# Altium integrated library Linear Technology Power Management System Supervisor, Monitor and Control.IntLib: 1611 symbols (part 30 of 100)
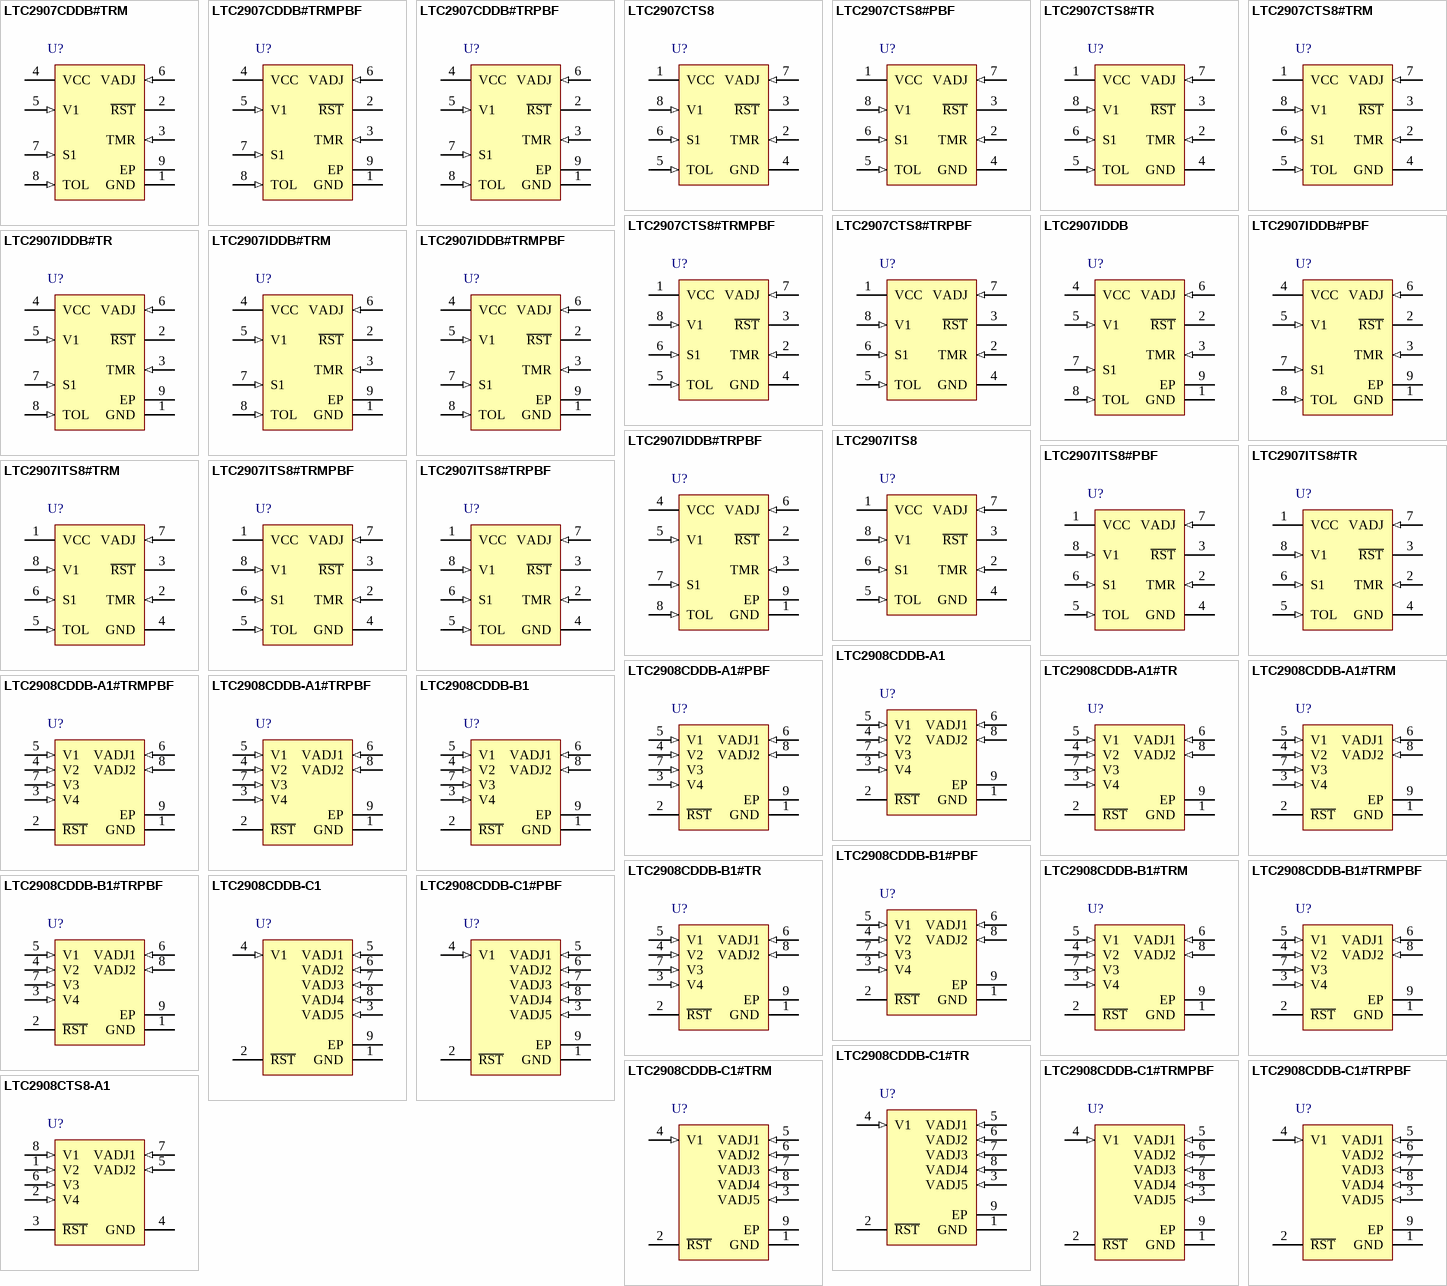
[diagram p74: symbols LTC2907CDDB#TRM to LTC2908CTS8-A1]

## LTC2908CDDB-C1#TRPBF
designator U?
Precision Six Supply Monitor, 8-pin SON (DDB-8), 0 to 70 degC, Pb-Free, Tape and Reel; Manufacturer: Linear Technology; PartNumber: LTC2908CDDB-C1#TRPBF; Number of Supplies(#): 6; DatasheetVersion: Rev. D; PackageVersion: Rev. B, 06/2010; PackageReference: DDB-8; PackageDescription: 8-Pin Plastic DFN, Body 3 x 2 mm, Pitch 0.5 mm; Supplier 1: Digi-Key; Supplier Part Number 1: LTC2908CDDB-C1#TRPBF-ND; Packing: Tape and Reel; RoHS: TRUE; Mounting Technology: Surface Mount; Code_JEDEC: MO-229; ComponentLink1Description: Manufacturer URL; ComponentLink1URL: http://www.linear.com/; ComponentLink2Description: Datasheet; ComponentLink2URL: http://cds.linear.com/docs/en/datasheet/2908fd.pdf; ComponentLink3Description: Package Specification; ComponentLink3URL: http://cds.linear.com/docs/en/packaging/DFN_8_05-08-1702.pdf
footprint LT-DDB-8_V (SON, 8-Leads, Body 3x2mm, Pitch 0.5mm, Thermal Pad 2.2x0.61mm)
pins: 1 GND (power) "Device Ground.", 2 ~{RST} (oc) "Reset Logic Output. Pulls low when any voltage input is below the reset threshold and is held low for 200ms after all voltage inputs are above threshold. This pin has a weak pull-up to VCC and may be pulled above VCC using (See Datasheet)", 3 VADJ5 (in) "Adjustable Voltage Input 5. See Table 1 for recommended ADJ resistors values.", 4 V1 (in) "Voltage Input 1. V1 is the internal VCC. The operating voltage on this pin shall not exceed 6V. When in normal operation, this pin draws approximately 22uA. Bypass this pin to ground with a 0.1uF (or greater) capacitor.", 5 VADJ1 (in) "Adjustable Voltage Input 1. See Table 1 for recommended ADJ resistors values.", 6 VADJ2 (in) "Adjustable Voltage Input 2. See Table 1 for recommended ADJ resistors values.", 7 VADJ3 (in) "Adjustable Voltage Input 3. See Table 1 for recommended ADJ resistors values.", 8 VADJ4 (in) "Adjustable Voltage Input 4. See Table 1 for recommended ADJ resistors values.", 9 EP (power) "Exposed pad may be left open or connected to device ground."

## LTC2908CTS8-A1
designator U?
Precision Six Supply Monitor, 8-pin SOT23 (TS8-8), 0 to 70 degC; Manufacturer: Linear Technology; PartNumber: LTC2908CTS8-A1; Number of Supplies(#): 6; DatasheetVersion: Rev. D; PackageVersion: Rev. A, 08/2010; PackageReference: TS8-8; PackageDescription: 8-Pin Plastic TSOT-23, Body 2.9 x 1.63 mm, Pitch 0.65 mm; RoHS: FALSE; Mounting Technology: Surface Mount; Code_JEDEC: MO-193; ComponentLink1Description: Manufacturer URL; ComponentLink1URL: http://www.linear.com/; ComponentLink2Description: Datasheet; ComponentLink2URL: http://cds.linear.com/docs/en/datasheet/2908fd.pdf; ComponentLink3Description: Package Specification; ComponentLink3URL: http://cds.linear.com/docs/en/packaging/SOT_8_05-08-1637.pdf
footprint LT-TS8-8-TSOT-23_V (SOT23, 8-Leads, Body 2.9x1.75mm, Pitch 0.65mm)
pins: 1 V2 (in) "Voltage Input 2. The greater of V1, V2 is also the internal VCC. The operating voltage on this pin shall not exceed 6V. When in normal operation (V1 > V2), this pin draws approximately 8uA. When this pin is acting as the VCC (See Datasheet)", 2 V4 (in) "Voltage Input 4.", 3 ~{RST} (oc) "Reset Logic Output. Pulls low when any voltage input is below the reset threshold and is held low for 200ms after all voltage inputs are above threshold. This pin has a weak pull-up to VCC and may be pulled above VCC using (See Datasheet)", 4 GND (power) "Device Ground.", 5 VADJ2 (in) "Adjustable Voltage Input 2. See Table 1 for recommended ADJ resistors values.", 6 V3 (in) "Voltage Input 3.", 7 VADJ1 (in) "Adjustable Voltage Input 1. See Table 1 for recommended ADJ resistors values.", 8 V1 (in) "Voltage Input 1. The greater of V1, V2 is also the internal VCC. The operating voltage on this pin shall not exceed 6V. When in normal operation (V1 > V2), this pin draws approximately 26 uA. When this pin is not acting as (See Datasheet)"

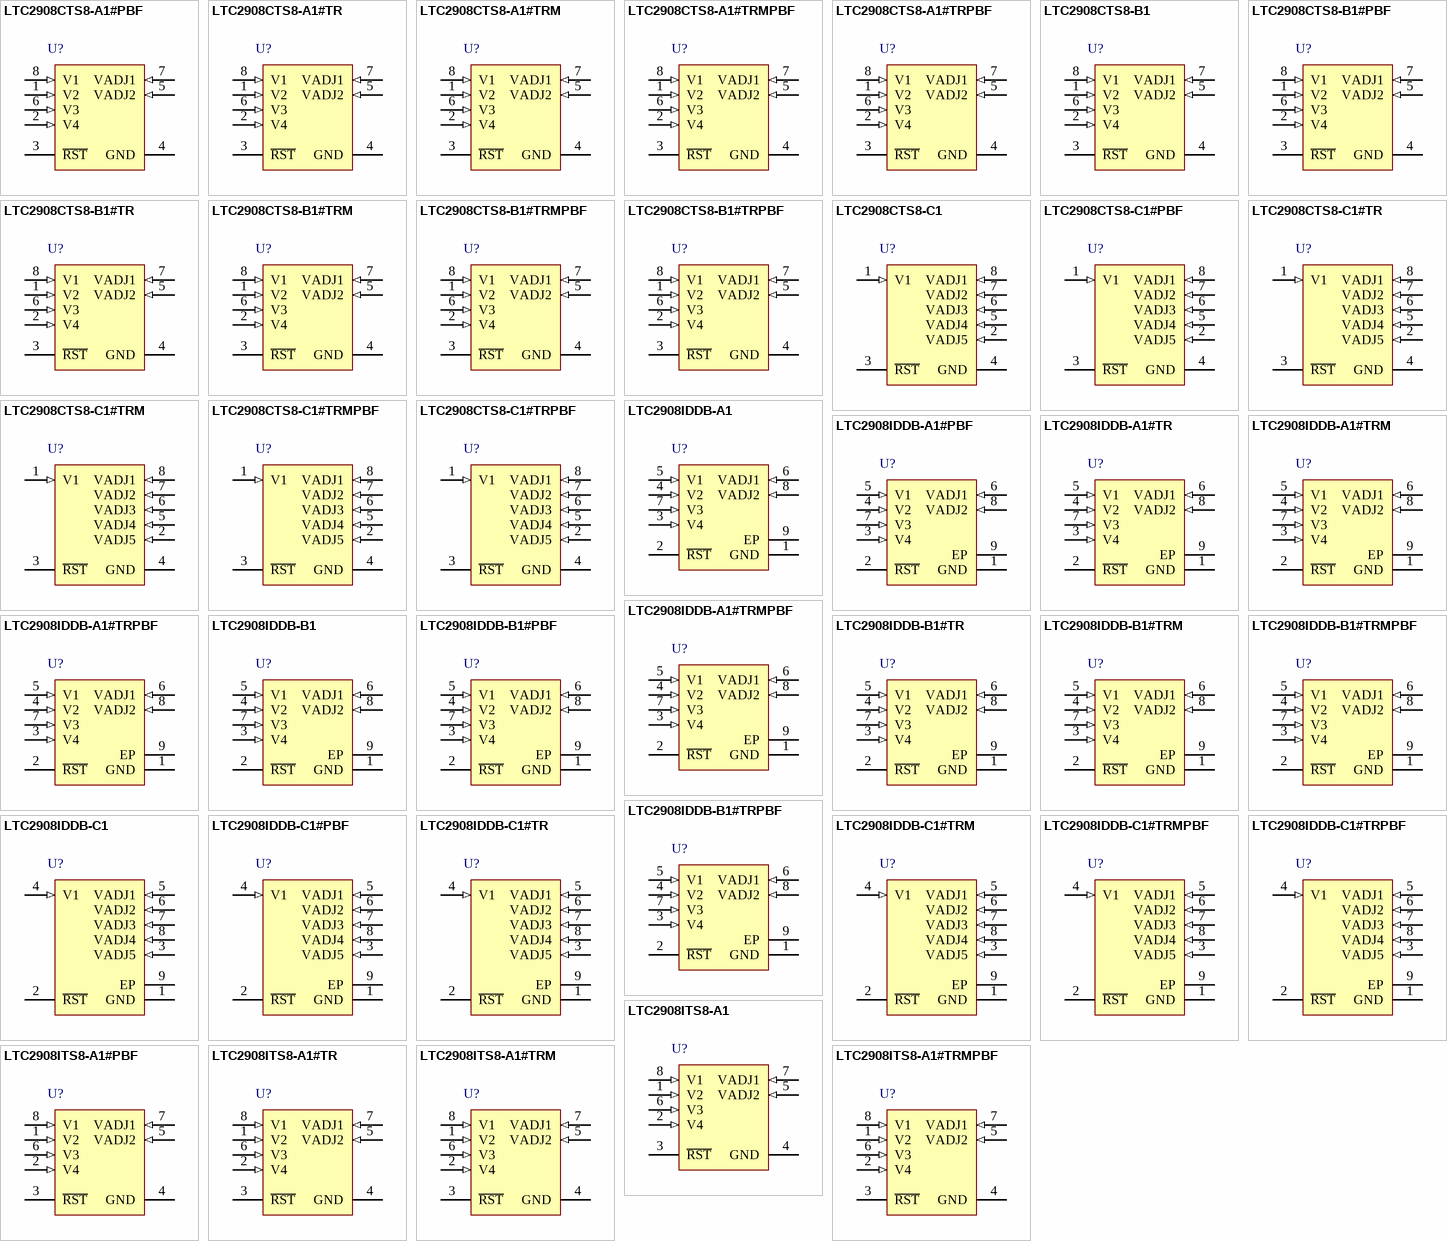
[diagram p15: symbols LTC2908CTS8-A1#PBF to LTC2908ITS8-A1#TRMPBF]

## LTC2908CTS8-A1#PBF
designator U?
Precision Six Supply Monitor, 8-pin SOT23 (TS8-8), 0 to 70 degC, Pb-Free; Manufacturer: Linear Technology; PartNumber: LTC2908CTS8-A1#PBF; Number of Supplies(#): 6; DatasheetVersion: Rev. D; PackageVersion: Rev. A, 08/2010; PackageReference: TS8-8; PackageDescription: 8-Pin Plastic TSOT-23, Body 2.9 x 1.63 mm, Pitch 0.65 mm; RoHS: TRUE; Mounting Technology: Surface Mount; Code_JEDEC: MO-193; ComponentLink1Description: Manufacturer URL; ComponentLink1URL: http://www.linear.com/; ComponentLink2Description: Datasheet; ComponentLink2URL: http://cds.linear.com/docs/en/datasheet/2908fd.pdf; ComponentLink3Description: Package Specification; ComponentLink3URL: http://cds.linear.com/docs/en/packaging/SOT_8_05-08-1637.pdf
footprint LT-TS8-8-TSOT-23_V (SOT23, 8-Leads, Body 2.9x1.75mm, Pitch 0.65mm)
pins: 1 V2 (in) "Voltage Input 2. The greater of V1, V2 is also the internal VCC. The operating voltage on this pin shall not exceed 6V. When in normal operation (V1 > V2), this pin draws approximately 8uA. When this pin is acting as the VCC (See Datasheet)", 2 V4 (in) "Voltage Input 4.", 3 ~{RST} (oc) "Reset Logic Output. Pulls low when any voltage input is below the reset threshold and is held low for 200ms after all voltage inputs are above threshold. This pin has a weak pull-up to VCC and may be pulled above VCC using (See Datasheet)", 4 GND (power) "Device Ground.", 5 VADJ2 (in) "Adjustable Voltage Input 2. See Table 1 for recommended ADJ resistors values.", 6 V3 (in) "Voltage Input 3.", 7 VADJ1 (in) "Adjustable Voltage Input 1. See Table 1 for recommended ADJ resistors values.", 8 V1 (in) "Voltage Input 1. The greater of V1, V2 is also the internal VCC. The operating voltage on this pin shall not exceed 6V. When in normal operation (V1 > V2), this pin draws approximately 26 uA. When this pin is not acting as (See Datasheet)"

## LTC2908CTS8-A1#TR
designator U?
Precision Six Supply Monitor, 8-pin SOT23 (TS8-8), 0 to 70 degC, Tape and Reel; Manufacturer: Linear Technology; PartNumber: LTC2908CTS8-A1#TR; Number of Supplies(#): 6; DatasheetVersion: Rev. D; PackageVersion: Rev. A, 08/2010; PackageReference: TS8-8; PackageDescription: 8-Pin Plastic TSOT-23, Body 2.9 x 1.63 mm, Pitch 0.65 mm; Supplier 1: Digi-Key; Supplier Part Number 1: LTC2908CTS8-A1#TR-ND; Packing: Tape and Reel; RoHS: FALSE; Mounting Technology: Surface Mount; Code_JEDEC: MO-193; ComponentLink1Description: Manufacturer URL; ComponentLink1URL: http://www.linear.com/; ComponentLink2Description: Datasheet; ComponentLink2URL: http://cds.linear.com/docs/en/datasheet/2908fd.pdf; ComponentLink3Description: Package Specification; ComponentLink3URL: http://cds.linear.com/docs/en/packaging/SOT_8_05-08-1637.pdf
footprint LT-TS8-8-TSOT-23_V (SOT23, 8-Leads, Body 2.9x1.75mm, Pitch 0.65mm)
pins: 1 V2 (in) "Voltage Input 2. The greater of V1, V2 is also the internal VCC. The operating voltage on this pin shall not exceed 6V. When in normal operation (V1 > V2), this pin draws approximately 8uA. When this pin is acting as the VCC (See Datasheet)", 2 V4 (in) "Voltage Input 4.", 3 ~{RST} (oc) "Reset Logic Output. Pulls low when any voltage input is below the reset threshold and is held low for 200ms after all voltage inputs are above threshold. This pin has a weak pull-up to VCC and may be pulled above VCC using (See Datasheet)", 4 GND (power) "Device Ground.", 5 VADJ2 (in) "Adjustable Voltage Input 2. See Table 1 for recommended ADJ resistors values.", 6 V3 (in) "Voltage Input 3.", 7 VADJ1 (in) "Adjustable Voltage Input 1. See Table 1 for recommended ADJ resistors values.", 8 V1 (in) "Voltage Input 1. The greater of V1, V2 is also the internal VCC. The operating voltage on this pin shall not exceed 6V. When in normal operation (V1 > V2), this pin draws approximately 26 uA. When this pin is not acting as (See Datasheet)"

## LTC2908CTS8-A1#TRM
designator U?
Precision Six Supply Monitor, 8-pin SOT23 (TS8-8), 0 to 70 degC, Mini Tape and Reel; Manufacturer: Linear Technology; PartNumber: LTC2908CTS8-A1#TRM; Number of Supplies(#): 6; DatasheetVersion: Rev. D; PackageVersion: Rev. A, 08/2010; PackageReference: TS8-8; PackageDescription: 8-Pin Plastic TSOT-23, Body 2.9 x 1.63 mm, Pitch 0.65 mm; Supplier 1: Digi-Key; Supplier Part Number 1: LTC2908CTS8-A1#TRM-ND; Packing: Mini Tape and Reel; RoHS: FALSE; Mounting Technology: Surface Mount; Code_JEDEC: MO-193; ComponentLink1Description: Manufacturer URL; ComponentLink1URL: http://www.linear.com/; ComponentLink2Description: Datasheet; ComponentLink2URL: http://cds.linear.com/docs/en/datasheet/2908fd.pdf; ComponentLink3Description: Package Specification; ComponentLink3URL: http://cds.linear.com/docs/en/packaging/SOT_8_05-08-1637.pdf
footprint LT-TS8-8-TSOT-23_V (SOT23, 8-Leads, Body 2.9x1.75mm, Pitch 0.65mm)
pins: 1 V2 (in) "Voltage Input 2. The greater of V1, V2 is also the internal VCC. The operating voltage on this pin shall not exceed 6V. When in normal operation (V1 > V2), this pin draws approximately 8uA. When this pin is acting as the VCC (See Datasheet)", 2 V4 (in) "Voltage Input 4.", 3 ~{RST} (oc) "Reset Logic Output. Pulls low when any voltage input is below the reset threshold and is held low for 200ms after all voltage inputs are above threshold. This pin has a weak pull-up to VCC and may be pulled above VCC using (See Datasheet)", 4 GND (power) "Device Ground.", 5 VADJ2 (in) "Adjustable Voltage Input 2. See Table 1 for recommended ADJ resistors values.", 6 V3 (in) "Voltage Input 3.", 7 VADJ1 (in) "Adjustable Voltage Input 1. See Table 1 for recommended ADJ resistors values.", 8 V1 (in) "Voltage Input 1. The greater of V1, V2 is also the internal VCC. The operating voltage on this pin shall not exceed 6V. When in normal operation (V1 > V2), this pin draws approximately 26 uA. When this pin is not acting as (See Datasheet)"

## LTC2908CTS8-A1#TRMPBF
designator U?
Precision Six Supply Monitor, 8-pin SOT23 (TS8-8), 0 to 70 degC, Pb-Free, Mini Tape and Reel; Manufacturer: Linear Technology; PartNumber: LTC2908CTS8-A1#TRMPBF; Number of Supplies(#): 6; DatasheetVersion: Rev. D; PackageVersion: Rev. A, 08/2010; PackageReference: TS8-8; PackageDescription: 8-Pin Plastic TSOT-23, Body 2.9 x 1.63 mm, Pitch 0.65 mm; Supplier 1: Digi-Key; Supplier Part Number 1: LTC2908CTS8-A1#TRMPBF-ND; Packing: Mini Tape and Reel; RoHS: TRUE; Mounting Technology: Surface Mount; Code_JEDEC: MO-193; ComponentLink1Description: Manufacturer URL; ComponentLink1URL: http://www.linear.com/; ComponentLink2Description: Datasheet; ComponentLink2URL: http://cds.linear.com/docs/en/datasheet/2908fd.pdf; ComponentLink3Description: Package Specification; ComponentLink3URL: http://cds.linear.com/docs/en/packaging/SOT_8_05-08-1637.pdf
footprint LT-TS8-8-TSOT-23_V (SOT23, 8-Leads, Body 2.9x1.75mm, Pitch 0.65mm)
pins: 1 V2 (in) "Voltage Input 2. The greater of V1, V2 is also the internal VCC. The operating voltage on this pin shall not exceed 6V. When in normal operation (V1 > V2), this pin draws approximately 8uA. When this pin is acting as the VCC (See Datasheet)", 2 V4 (in) "Voltage Input 4.", 3 ~{RST} (oc) "Reset Logic Output. Pulls low when any voltage input is below the reset threshold and is held low for 200ms after all voltage inputs are above threshold. This pin has a weak pull-up to VCC and may be pulled above VCC using (See Datasheet)", 4 GND (power) "Device Ground.", 5 VADJ2 (in) "Adjustable Voltage Input 2. See Table 1 for recommended ADJ resistors values.", 6 V3 (in) "Voltage Input 3.", 7 VADJ1 (in) "Adjustable Voltage Input 1. See Table 1 for recommended ADJ resistors values.", 8 V1 (in) "Voltage Input 1. The greater of V1, V2 is also the internal VCC. The operating voltage on this pin shall not exceed 6V. When in normal operation (V1 > V2), this pin draws approximately 26 uA. When this pin is not acting as (See Datasheet)"

## LTC2908CTS8-A1#TRPBF
designator U?
Precision Six Supply Monitor, 8-pin SOT23 (TS8-8), 0 to 70 degC, Pb-Free, Tape and Reel; Manufacturer: Linear Technology; PartNumber: LTC2908CTS8-A1#TRPBF; Number of Supplies(#): 6; DatasheetVersion: Rev. D; PackageVersion: Rev. A, 08/2010; PackageReference: TS8-8; PackageDescription: 8-Pin Plastic TSOT-23, Body 2.9 x 1.63 mm, Pitch 0.65 mm; Supplier 1: Digi-Key; Supplier Part Number 1: LTC2908CTS8-A1#TRPBF-ND; Packing: Tape and Reel; RoHS: TRUE; Mounting Technology: Surface Mount; Code_JEDEC: MO-193; ComponentLink1Description: Manufacturer URL; ComponentLink1URL: http://www.linear.com/; ComponentLink2Description: Datasheet; ComponentLink2URL: http://cds.linear.com/docs/en/datasheet/2908fd.pdf; ComponentLink3Description: Package Specification; ComponentLink3URL: http://cds.linear.com/docs/en/packaging/SOT_8_05-08-1637.pdf
footprint LT-TS8-8-TSOT-23_V (SOT23, 8-Leads, Body 2.9x1.75mm, Pitch 0.65mm)
pins: 1 V2 (in) "Voltage Input 2. The greater of V1, V2 is also the internal VCC. The operating voltage on this pin shall not exceed 6V. When in normal operation (V1 > V2), this pin draws approximately 8uA. When this pin is acting as the VCC (See Datasheet)", 2 V4 (in) "Voltage Input 4.", 3 ~{RST} (oc) "Reset Logic Output. Pulls low when any voltage input is below the reset threshold and is held low for 200ms after all voltage inputs are above threshold. This pin has a weak pull-up to VCC and may be pulled above VCC using (See Datasheet)", 4 GND (power) "Device Ground.", 5 VADJ2 (in) "Adjustable Voltage Input 2. See Table 1 for recommended ADJ resistors values.", 6 V3 (in) "Voltage Input 3.", 7 VADJ1 (in) "Adjustable Voltage Input 1. See Table 1 for recommended ADJ resistors values.", 8 V1 (in) "Voltage Input 1. The greater of V1, V2 is also the internal VCC. The operating voltage on this pin shall not exceed 6V. When in normal operation (V1 > V2), this pin draws approximately 26 uA. When this pin is not acting as (See Datasheet)"

## LTC2908CTS8-B1
designator U?
Precision Six Supply Monitor, 8-pin SOT23 (TS8-8), 0 to 70 degC; Manufacturer: Linear Technology; PartNumber: LTC2908CTS8-B1; Number of Supplies(#): 6; DatasheetVersion: Rev. D; PackageVersion: Rev. A, 08/2010; PackageReference: TS8-8; PackageDescription: 8-Pin Plastic TSOT-23, Body 2.9 x 1.63 mm, Pitch 0.65 mm; RoHS: FALSE; Mounting Technology: Surface Mount; Code_JEDEC: MO-193; ComponentLink1Description: Manufacturer URL; ComponentLink1URL: http://www.linear.com/; ComponentLink2Description: Datasheet; ComponentLink2URL: http://cds.linear.com/docs/en/datasheet/2908fd.pdf; ComponentLink3Description: Package Specification; ComponentLink3URL: http://cds.linear.com/docs/en/packaging/SOT_8_05-08-1637.pdf
footprint LT-TS8-8-TSOT-23_V (SOT23, 8-Leads, Body 2.9x1.75mm, Pitch 0.65mm)
pins: 1 V2 (in) "Voltage Input 2. The greater of V1, V2 is also the internal VCC. The operating voltage on this pin shall not exceed 6V. When in normal operation (V1 > V2), this pin draws approximately 8uA. When this pin is acting as the VCC (See Datasheet)", 2 V4 (in) "Voltage Input 4.", 3 ~{RST} (oc) "Reset Logic Output. Pulls low when any voltage input is below the reset threshold and is held low for 200ms after all voltage inputs are above threshold. This pin has a weak pull-up to VCC and may be pulled above VCC using (See Datasheet)", 4 GND (power) "Device Ground.", 5 VADJ2 (in) "Adjustable Voltage Input 2. See Table 1 for recommended ADJ resistors values.", 6 V3 (in) "Voltage Input 3.", 7 VADJ1 (in) "Adjustable Voltage Input 1. See Table 1 for recommended ADJ resistors values.", 8 V1 (in) "Voltage Input 1. The greater of V1, V2 is also the internal VCC. The operating voltage on this pin shall not exceed 6V. When in normal operation (V1 > V2), this pin draws approximately 26 uA. When this pin is not acting as (See Datasheet)"

## LTC2908CTS8-B1#PBF
designator U?
Precision Six Supply Monitor, 8-pin SOT23 (TS8-8), 0 to 70 degC, Pb-Free; Manufacturer: Linear Technology; PartNumber: LTC2908CTS8-B1#PBF; Number of Supplies(#): 6; DatasheetVersion: Rev. D; PackageVersion: Rev. A, 08/2010; PackageReference: TS8-8; PackageDescription: 8-Pin Plastic TSOT-23, Body 2.9 x 1.63 mm, Pitch 0.65 mm; Supplier 1: Farnell; Supplier Part Number 1: 2115938; Supplier 2: Farnell; Supplier Part Number 2: 1531692; Supplier 3: Newark; Supplier Part Number 3: 66M7838; RoHS: TRUE; Mounting Technology: Surface Mount; Code_JEDEC: MO-193; ComponentLink1Description: Manufacturer URL; ComponentLink1URL: http://www.linear.com/; ComponentLink2Description: Datasheet; ComponentLink2URL: http://cds.linear.com/docs/en/datasheet/2908fd.pdf; ComponentLink3Description: Package Specification; ComponentLink3URL: http://cds.linear.com/docs/en/packaging/SOT_8_05-08-1637.pdf
footprint LT-TS8-8-TSOT-23_V (SOT23, 8-Leads, Body 2.9x1.75mm, Pitch 0.65mm)
pins: 1 V2 (in) "Voltage Input 2. The greater of V1, V2 is also the internal VCC. The operating voltage on this pin shall not exceed 6V. When in normal operation (V1 > V2), this pin draws approximately 8uA. When this pin is acting as the VCC (See Datasheet)", 2 V4 (in) "Voltage Input 4.", 3 ~{RST} (oc) "Reset Logic Output. Pulls low when any voltage input is below the reset threshold and is held low for 200ms after all voltage inputs are above threshold. This pin has a weak pull-up to VCC and may be pulled above VCC using (See Datasheet)", 4 GND (power) "Device Ground.", 5 VADJ2 (in) "Adjustable Voltage Input 2. See Table 1 for recommended ADJ resistors values.", 6 V3 (in) "Voltage Input 3.", 7 VADJ1 (in) "Adjustable Voltage Input 1. See Table 1 for recommended ADJ resistors values.", 8 V1 (in) "Voltage Input 1. The greater of V1, V2 is also the internal VCC. The operating voltage on this pin shall not exceed 6V. When in normal operation (V1 > V2), this pin draws approximately 26 uA. When this pin is not acting as (See Datasheet)"

## LTC2908CTS8-B1#TR
designator U?
Precision Six Supply Monitor, 8-pin SOT23 (TS8-8), 0 to 70 degC, Tape and Reel; Manufacturer: Linear Technology; PartNumber: LTC2908CTS8-B1#TR; Number of Supplies(#): 6; DatasheetVersion: Rev. D; PackageVersion: Rev. A, 08/2010; PackageReference: TS8-8; PackageDescription: 8-Pin Plastic TSOT-23, Body 2.9 x 1.63 mm, Pitch 0.65 mm; Supplier 1: Digi-Key; Supplier Part Number 1: LTC2908CTS8-B1#TR-ND; Packing: Tape and Reel; RoHS: FALSE; Mounting Technology: Surface Mount; Code_JEDEC: MO-193; ComponentLink1Description: Manufacturer URL; ComponentLink1URL: http://www.linear.com/; ComponentLink2Description: Datasheet; ComponentLink2URL: http://cds.linear.com/docs/en/datasheet/2908fd.pdf; ComponentLink3Description: Package Specification; ComponentLink3URL: http://cds.linear.com/docs/en/packaging/SOT_8_05-08-1637.pdf
footprint LT-TS8-8-TSOT-23_V (SOT23, 8-Leads, Body 2.9x1.75mm, Pitch 0.65mm)
pins: 1 V2 (in) "Voltage Input 2. The greater of V1, V2 is also the internal VCC. The operating voltage on this pin shall not exceed 6V. When in normal operation (V1 > V2), this pin draws approximately 8uA. When this pin is acting as the VCC (See Datasheet)", 2 V4 (in) "Voltage Input 4.", 3 ~{RST} (oc) "Reset Logic Output. Pulls low when any voltage input is below the reset threshold and is held low for 200ms after all voltage inputs are above threshold. This pin has a weak pull-up to VCC and may be pulled above VCC using (See Datasheet)", 4 GND (power) "Device Ground.", 5 VADJ2 (in) "Adjustable Voltage Input 2. See Table 1 for recommended ADJ resistors values.", 6 V3 (in) "Voltage Input 3.", 7 VADJ1 (in) "Adjustable Voltage Input 1. See Table 1 for recommended ADJ resistors values.", 8 V1 (in) "Voltage Input 1. The greater of V1, V2 is also the internal VCC. The operating voltage on this pin shall not exceed 6V. When in normal operation (V1 > V2), this pin draws approximately 26 uA. When this pin is not acting as (See Datasheet)"

## LTC2908CTS8-B1#TRM
designator U?
Precision Six Supply Monitor, 8-pin SOT23 (TS8-8), 0 to 70 degC, Mini Tape and Reel; Manufacturer: Linear Technology; PartNumber: LTC2908CTS8-B1#TRM; Number of Supplies(#): 6; DatasheetVersion: Rev. D; PackageVersion: Rev. A, 08/2010; PackageReference: TS8-8; PackageDescription: 8-Pin Plastic TSOT-23, Body 2.9 x 1.63 mm, Pitch 0.65 mm; Supplier 1: Digi-Key; Supplier Part Number 1: LTC2908CTS8-B1#TRM-ND; Packing: Mini Tape and Reel; RoHS: FALSE; Mounting Technology: Surface Mount; Code_JEDEC: MO-193; ComponentLink1Description: Manufacturer URL; ComponentLink1URL: http://www.linear.com/; ComponentLink2Description: Datasheet; ComponentLink2URL: http://cds.linear.com/docs/en/datasheet/2908fd.pdf; ComponentLink3Description: Package Specification; ComponentLink3URL: http://cds.linear.com/docs/en/packaging/SOT_8_05-08-1637.pdf
footprint LT-TS8-8-TSOT-23_V (SOT23, 8-Leads, Body 2.9x1.75mm, Pitch 0.65mm)
pins: 1 V2 (in) "Voltage Input 2. The greater of V1, V2 is also the internal VCC. The operating voltage on this pin shall not exceed 6V. When in normal operation (V1 > V2), this pin draws approximately 8uA. When this pin is acting as the VCC (See Datasheet)", 2 V4 (in) "Voltage Input 4.", 3 ~{RST} (oc) "Reset Logic Output. Pulls low when any voltage input is below the reset threshold and is held low for 200ms after all voltage inputs are above threshold. This pin has a weak pull-up to VCC and may be pulled above VCC using (See Datasheet)", 4 GND (power) "Device Ground.", 5 VADJ2 (in) "Adjustable Voltage Input 2. See Table 1 for recommended ADJ resistors values.", 6 V3 (in) "Voltage Input 3.", 7 VADJ1 (in) "Adjustable Voltage Input 1. See Table 1 for recommended ADJ resistors values.", 8 V1 (in) "Voltage Input 1. The greater of V1, V2 is also the internal VCC. The operating voltage on this pin shall not exceed 6V. When in normal operation (V1 > V2), this pin draws approximately 26 uA. When this pin is not acting as (See Datasheet)"

## LTC2908CTS8-B1#TRMPBF
designator U?
Precision Six Supply Monitor, 8-pin SOT23 (TS8-8), 0 to 70 degC, Pb-Free, Mini Tape and Reel; Manufacturer: Linear Technology; PartNumber: LTC2908CTS8-B1#TRMPBF; Number of Supplies(#): 6; DatasheetVersion: Rev. D; PackageVersion: Rev. A, 08/2010; PackageReference: TS8-8; PackageDescription: 8-Pin Plastic TSOT-23, Body 2.9 x 1.63 mm, Pitch 0.65 mm; Supplier 1: Digi-Key; Supplier Part Number 1: LTC2908CTS8-B1#TRMPBFTR-ND; Supplier 2: Digi-Key; Supplier Part Number 2: LTC2908CTS8-B1#TRMPBFCT-ND; Supplier 3: Digi-Key; Supplier Part Number 3: LTC2908CTS8-B1#TRMPBFDKR-ND; Supplier 4: Newark; Supplier Part Number 4: 59M8270; Packing: Mini Tape and Reel; RoHS: TRUE; Mounting Technology: Surface Mount; Code_JEDEC: MO-193; ComponentLink1Description: Manufacturer URL; ComponentLink1URL: http://www.linear.com/; ComponentLink2Description: Datasheet; ComponentLink2URL: http://cds.linear.com/docs/en/datasheet/2908fd.pdf; ComponentLink3Description: Package Specification; ComponentLink3URL: http://cds.linear.com/docs/en/packaging/SOT_8_05-08-1637.pdf
footprint LT-TS8-8-TSOT-23_V (SOT23, 8-Leads, Body 2.9x1.75mm, Pitch 0.65mm)
pins: 1 V2 (in) "Voltage Input 2. The greater of V1, V2 is also the internal VCC. The operating voltage on this pin shall not exceed 6V. When in normal operation (V1 > V2), this pin draws approximately 8uA. When this pin is acting as the VCC (See Datasheet)", 2 V4 (in) "Voltage Input 4.", 3 ~{RST} (oc) "Reset Logic Output. Pulls low when any voltage input is below the reset threshold and is held low for 200ms after all voltage inputs are above threshold. This pin has a weak pull-up to VCC and may be pulled above VCC using (See Datasheet)", 4 GND (power) "Device Ground.", 5 VADJ2 (in) "Adjustable Voltage Input 2. See Table 1 for recommended ADJ resistors values.", 6 V3 (in) "Voltage Input 3.", 7 VADJ1 (in) "Adjustable Voltage Input 1. See Table 1 for recommended ADJ resistors values.", 8 V1 (in) "Voltage Input 1. The greater of V1, V2 is also the internal VCC. The operating voltage on this pin shall not exceed 6V. When in normal operation (V1 > V2), this pin draws approximately 26 uA. When this pin is not acting as (See Datasheet)"

## LTC2908CTS8-B1#TRPBF
designator U?
Precision Six Supply Monitor, 8-pin SOT23 (TS8-8), 0 to 70 degC, Pb-Free, Tape and Reel; Manufacturer: Linear Technology; PartNumber: LTC2908CTS8-B1#TRPBF; Number of Supplies(#): 6; DatasheetVersion: Rev. D; PackageVersion: Rev. A, 08/2010; PackageReference: TS8-8; PackageDescription: 8-Pin Plastic TSOT-23, Body 2.9 x 1.63 mm, Pitch 0.65 mm; Supplier 1: Digi-Key; Supplier Part Number 1: LTC2908CTS8-B1#TRPBF-ND; Supplier 2: Newark; Supplier Part Number 2: 56M6742; Packing: Tape and Reel; RoHS: TRUE; Mounting Technology: Surface Mount; Code_JEDEC: MO-193; ComponentLink1Description: Manufacturer URL; ComponentLink1URL: http://www.linear.com/; ComponentLink2Description: Datasheet; ComponentLink2URL: http://cds.linear.com/docs/en/datasheet/2908fd.pdf; ComponentLink3Description: Package Specification; ComponentLink3URL: http://cds.linear.com/docs/en/packaging/SOT_8_05-08-1637.pdf
footprint LT-TS8-8-TSOT-23_V (SOT23, 8-Leads, Body 2.9x1.75mm, Pitch 0.65mm)
pins: 1 V2 (in) "Voltage Input 2. The greater of V1, V2 is also the internal VCC. The operating voltage on this pin shall not exceed 6V. When in normal operation (V1 > V2), this pin draws approximately 8uA. When this pin is acting as the VCC (See Datasheet)", 2 V4 (in) "Voltage Input 4.", 3 ~{RST} (oc) "Reset Logic Output. Pulls low when any voltage input is below the reset threshold and is held low for 200ms after all voltage inputs are above threshold. This pin has a weak pull-up to VCC and may be pulled above VCC using (See Datasheet)", 4 GND (power) "Device Ground.", 5 VADJ2 (in) "Adjustable Voltage Input 2. See Table 1 for recommended ADJ resistors values.", 6 V3 (in) "Voltage Input 3.", 7 VADJ1 (in) "Adjustable Voltage Input 1. See Table 1 for recommended ADJ resistors values.", 8 V1 (in) "Voltage Input 1. The greater of V1, V2 is also the internal VCC. The operating voltage on this pin shall not exceed 6V. When in normal operation (V1 > V2), this pin draws approximately 26 uA. When this pin is not acting as (See Datasheet)"

## LTC2908CTS8-C1
designator U?
Precision Six Supply Monitor, 8-pin SOT23 (TS8-8), 0 to 70 degC; Manufacturer: Linear Technology; PartNumber: LTC2908CTS8-C1; Number of Supplies(#): 6; DatasheetVersion: Rev. D; PackageVersion: Rev. A, 08/2010; PackageReference: TS8-8; PackageDescription: 8-Pin Plastic TSOT-23, Body 2.9 x 1.63 mm, Pitch 0.65 mm; RoHS: FALSE; Mounting Technology: Surface Mount; Code_JEDEC: MO-193; ComponentLink1Description: Manufacturer URL; ComponentLink1URL: http://www.linear.com/; ComponentLink2Description: Datasheet; ComponentLink2URL: http://cds.linear.com/docs/en/datasheet/2908fd.pdf; ComponentLink3Description: Package Specification; ComponentLink3URL: http://cds.linear.com/docs/en/packaging/SOT_8_05-08-1637.pdf
footprint LT-TS8-8-TSOT-23_V (SOT23, 8-Leads, Body 2.9x1.75mm, Pitch 0.65mm)
pins: 1 V1 (in) "Voltage Input 1. V1 is the internal VCC. The operating voltage on this pin shall not exceed 6V. When in normal operation, this pin draws approximately 22uA. Bypass this pin to ground with a 0.1uF (or greater) capacitor.", 2 VADJ5 (in) "Adjustable Voltage Input 5. See Table 1 for recommended ADJ resistors values.", 3 ~{RST} (oc) "Reset Logic Output. Pulls low when any voltage input is below the reset threshold and is held low for 200ms after all voltage inputs are above threshold. This pin has a weak pull-up to VCC and may be pulled above VCC using (See Datasheet)", 4 GND (power) "Device Ground.", 5 VADJ4 (in) "Adjustable Voltage Input 4. See Table 1 for recommended ADJ resistors values.", 6 VADJ3 (in) "Adjustable Voltage Input 3. See Table 1 for recommended ADJ resistors values.", 7 VADJ2 (in) "Adjustable Voltage Input 2. See Table 1 for recommended ADJ resistors values.", 8 VADJ1 (in) "Adjustable Voltage Input 1. See Table 1 for recommended ADJ resistors values."

## LTC2908CTS8-C1#PBF
designator U?
Precision Six Supply Monitor, 8-pin SOT23 (TS8-8), 0 to 70 degC, Pb-Free; Manufacturer: Linear Technology; PartNumber: LTC2908CTS8-C1#PBF; Number of Supplies(#): 6; DatasheetVersion: Rev. D; PackageVersion: Rev. A, 08/2010; PackageReference: TS8-8; PackageDescription: 8-Pin Plastic TSOT-23, Body 2.9 x 1.63 mm, Pitch 0.65 mm; RoHS: TRUE; Mounting Technology: Surface Mount; Code_JEDEC: MO-193; ComponentLink1Description: Manufacturer URL; ComponentLink1URL: http://www.linear.com/; ComponentLink2Description: Datasheet; ComponentLink2URL: http://cds.linear.com/docs/en/datasheet/2908fd.pdf; ComponentLink3Description: Package Specification; ComponentLink3URL: http://cds.linear.com/docs/en/packaging/SOT_8_05-08-1637.pdf
footprint LT-TS8-8-TSOT-23_V (SOT23, 8-Leads, Body 2.9x1.75mm, Pitch 0.65mm)
pins: 1 V1 (in) "Voltage Input 1. V1 is the internal VCC. The operating voltage on this pin shall not exceed 6V. When in normal operation, this pin draws approximately 22uA. Bypass this pin to ground with a 0.1uF (or greater) capacitor.", 2 VADJ5 (in) "Adjustable Voltage Input 5. See Table 1 for recommended ADJ resistors values.", 3 ~{RST} (oc) "Reset Logic Output. Pulls low when any voltage input is below the reset threshold and is held low for 200ms after all voltage inputs are above threshold. This pin has a weak pull-up to VCC and may be pulled above VCC using (See Datasheet)", 4 GND (power) "Device Ground.", 5 VADJ4 (in) "Adjustable Voltage Input 4. See Table 1 for recommended ADJ resistors values.", 6 VADJ3 (in) "Adjustable Voltage Input 3. See Table 1 for recommended ADJ resistors values.", 7 VADJ2 (in) "Adjustable Voltage Input 2. See Table 1 for recommended ADJ resistors values.", 8 VADJ1 (in) "Adjustable Voltage Input 1. See Table 1 for recommended ADJ resistors values."

## LTC2908CTS8-C1#TR
designator U?
Precision Six Supply Monitor, 8-pin SOT23 (TS8-8), 0 to 70 degC, Tape and Reel; Manufacturer: Linear Technology; PartNumber: LTC2908CTS8-C1#TR; Number of Supplies(#): 6; DatasheetVersion: Rev. D; PackageVersion: Rev. A, 08/2010; PackageReference: TS8-8; PackageDescription: 8-Pin Plastic TSOT-23, Body 2.9 x 1.63 mm, Pitch 0.65 mm; Packing: Tape and Reel; RoHS: FALSE; Mounting Technology: Surface Mount; Code_JEDEC: MO-193; ComponentLink1Description: Manufacturer URL; ComponentLink1URL: http://www.linear.com/; ComponentLink2Description: Datasheet; ComponentLink2URL: http://cds.linear.com/docs/en/datasheet/2908fd.pdf; ComponentLink3Description: Package Specification; ComponentLink3URL: http://cds.linear.com/docs/en/packaging/SOT_8_05-08-1637.pdf
footprint LT-TS8-8-TSOT-23_V (SOT23, 8-Leads, Body 2.9x1.75mm, Pitch 0.65mm)
pins: 1 V1 (in) "Voltage Input 1. V1 is the internal VCC. The operating voltage on this pin shall not exceed 6V. When in normal operation, this pin draws approximately 22uA. Bypass this pin to ground with a 0.1uF (or greater) capacitor.", 2 VADJ5 (in) "Adjustable Voltage Input 5. See Table 1 for recommended ADJ resistors values.", 3 ~{RST} (oc) "Reset Logic Output. Pulls low when any voltage input is below the reset threshold and is held low for 200ms after all voltage inputs are above threshold. This pin has a weak pull-up to VCC and may be pulled above VCC using (See Datasheet)", 4 GND (power) "Device Ground.", 5 VADJ4 (in) "Adjustable Voltage Input 4. See Table 1 for recommended ADJ resistors values.", 6 VADJ3 (in) "Adjustable Voltage Input 3. See Table 1 for recommended ADJ resistors values.", 7 VADJ2 (in) "Adjustable Voltage Input 2. See Table 1 for recommended ADJ resistors values.", 8 VADJ1 (in) "Adjustable Voltage Input 1. See Table 1 for recommended ADJ resistors values."

## LTC2908CTS8-C1#TRM
designator U?
Precision Six Supply Monitor, 8-pin SOT23 (TS8-8), 0 to 70 degC, Mini Tape and Reel; Manufacturer: Linear Technology; PartNumber: LTC2908CTS8-C1#TRM; Number of Supplies(#): 6; DatasheetVersion: Rev. D; PackageVersion: Rev. A, 08/2010; PackageReference: TS8-8; PackageDescription: 8-Pin Plastic TSOT-23, Body 2.9 x 1.63 mm, Pitch 0.65 mm; Packing: Mini Tape and Reel; RoHS: FALSE; Mounting Technology: Surface Mount; Code_JEDEC: MO-193; ComponentLink1Description: Manufacturer URL; ComponentLink1URL: http://www.linear.com/; ComponentLink2Description: Datasheet; ComponentLink2URL: http://cds.linear.com/docs/en/datasheet/2908fd.pdf; ComponentLink3Description: Package Specification; ComponentLink3URL: http://cds.linear.com/docs/en/packaging/SOT_8_05-08-1637.pdf
footprint LT-TS8-8-TSOT-23_V (SOT23, 8-Leads, Body 2.9x1.75mm, Pitch 0.65mm)
pins: 1 V1 (in) "Voltage Input 1. V1 is the internal VCC. The operating voltage on this pin shall not exceed 6V. When in normal operation, this pin draws approximately 22uA. Bypass this pin to ground with a 0.1uF (or greater) capacitor.", 2 VADJ5 (in) "Adjustable Voltage Input 5. See Table 1 for recommended ADJ resistors values.", 3 ~{RST} (oc) "Reset Logic Output. Pulls low when any voltage input is below the reset threshold and is held low for 200ms after all voltage inputs are above threshold. This pin has a weak pull-up to VCC and may be pulled above VCC using (See Datasheet)", 4 GND (power) "Device Ground.", 5 VADJ4 (in) "Adjustable Voltage Input 4. See Table 1 for recommended ADJ resistors values.", 6 VADJ3 (in) "Adjustable Voltage Input 3. See Table 1 for recommended ADJ resistors values.", 7 VADJ2 (in) "Adjustable Voltage Input 2. See Table 1 for recommended ADJ resistors values.", 8 VADJ1 (in) "Adjustable Voltage Input 1. See Table 1 for recommended ADJ resistors values."

## LTC2908CTS8-C1#TRMPBF
designator U?
Precision Six Supply Monitor, 8-pin SOT23 (TS8-8), 0 to 70 degC, Pb-Free, Mini Tape and Reel; Manufacturer: Linear Technology; PartNumber: LTC2908CTS8-C1#TRMPBF; Number of Supplies(#): 6; DatasheetVersion: Rev. D; PackageVersion: Rev. A, 08/2010; PackageReference: TS8-8; PackageDescription: 8-Pin Plastic TSOT-23, Body 2.9 x 1.63 mm, Pitch 0.65 mm; Supplier 1: Digi-Key; Supplier Part Number 1: LTC2908CTS8-C1#TRMPBFTR-ND; Supplier 2: Digi-Key; Supplier Part Number 2: LTC2908CTS8-C1#TRMPBFCT-ND; Supplier 3: Digi-Key; Supplier Part Number 3: LTC2908CTS8-C1#TRMPBFDKR-ND; Packing: Mini Tape and Reel; RoHS: TRUE; Mounting Technology: Surface Mount; Code_JEDEC: MO-193; ComponentLink1Description: Manufacturer URL; ComponentLink1URL: http://www.linear.com/; ComponentLink2Description: Datasheet; ComponentLink2URL: http://cds.linear.com/docs/en/datasheet/2908fd.pdf; ComponentLink3Description: Package Specification; ComponentLink3URL: http://cds.linear.com/docs/en/packaging/SOT_8_05-08-1637.pdf
footprint LT-TS8-8-TSOT-23_V (SOT23, 8-Leads, Body 2.9x1.75mm, Pitch 0.65mm)
pins: 1 V1 (in) "Voltage Input 1. V1 is the internal VCC. The operating voltage on this pin shall not exceed 6V. When in normal operation, this pin draws approximately 22uA. Bypass this pin to ground with a 0.1uF (or greater) capacitor.", 2 VADJ5 (in) "Adjustable Voltage Input 5. See Table 1 for recommended ADJ resistors values.", 3 ~{RST} (oc) "Reset Logic Output. Pulls low when any voltage input is below the reset threshold and is held low for 200ms after all voltage inputs are above threshold. This pin has a weak pull-up to VCC and may be pulled above VCC using (See Datasheet)", 4 GND (power) "Device Ground.", 5 VADJ4 (in) "Adjustable Voltage Input 4. See Table 1 for recommended ADJ resistors values.", 6 VADJ3 (in) "Adjustable Voltage Input 3. See Table 1 for recommended ADJ resistors values.", 7 VADJ2 (in) "Adjustable Voltage Input 2. See Table 1 for recommended ADJ resistors values.", 8 VADJ1 (in) "Adjustable Voltage Input 1. See Table 1 for recommended ADJ resistors values."

## LTC2908CTS8-C1#TRPBF
designator U?
Precision Six Supply Monitor, 8-pin SOT23 (TS8-8), 0 to 70 degC, Pb-Free, Tape and Reel; Manufacturer: Linear Technology; PartNumber: LTC2908CTS8-C1#TRPBF; Number of Supplies(#): 6; DatasheetVersion: Rev. D; PackageVersion: Rev. A, 08/2010; PackageReference: TS8-8; PackageDescription: 8-Pin Plastic TSOT-23, Body 2.9 x 1.63 mm, Pitch 0.65 mm; Supplier 1: Digi-Key; Supplier Part Number 1: LTC2908CTS8-C1#TRPBF-ND; Packing: Tape and Reel; RoHS: TRUE; Mounting Technology: Surface Mount; Code_JEDEC: MO-193; ComponentLink1Description: Manufacturer URL; ComponentLink1URL: http://www.linear.com/; ComponentLink2Description: Datasheet; ComponentLink2URL: http://cds.linear.com/docs/en/datasheet/2908fd.pdf; ComponentLink3Description: Package Specification; ComponentLink3URL: http://cds.linear.com/docs/en/packaging/SOT_8_05-08-1637.pdf
footprint LT-TS8-8-TSOT-23_V (SOT23, 8-Leads, Body 2.9x1.75mm, Pitch 0.65mm)
pins: 1 V1 (in) "Voltage Input 1. V1 is the internal VCC. The operating voltage on this pin shall not exceed 6V. When in normal operation, this pin draws approximately 22uA. Bypass this pin to ground with a 0.1uF (or greater) capacitor.", 2 VADJ5 (in) "Adjustable Voltage Input 5. See Table 1 for recommended ADJ resistors values.", 3 ~{RST} (oc) "Reset Logic Output. Pulls low when any voltage input is below the reset threshold and is held low for 200ms after all voltage inputs are above threshold. This pin has a weak pull-up to VCC and may be pulled above VCC using (See Datasheet)", 4 GND (power) "Device Ground.", 5 VADJ4 (in) "Adjustable Voltage Input 4. See Table 1 for recommended ADJ resistors values.", 6 VADJ3 (in) "Adjustable Voltage Input 3. See Table 1 for recommended ADJ resistors values.", 7 VADJ2 (in) "Adjustable Voltage Input 2. See Table 1 for recommended ADJ resistors values.", 8 VADJ1 (in) "Adjustable Voltage Input 1. See Table 1 for recommended ADJ resistors values."

## LTC2908IDDB-A1
designator U?
Precision Six Supply Monitor, 8-pin SON (DDB-8), -40 to 85 degC; Manufacturer: Linear Technology; PartNumber: LTC2908IDDB-A1; Number of Supplies(#): 6; DatasheetVersion: Rev. D; PackageVersion: Rev. B, 06/2010; PackageReference: DDB-8; PackageDescription: 8-Pin Plastic DFN, Body 3 x 2 mm, Pitch 0.5 mm; RoHS: FALSE; Mounting Technology: Surface Mount; Code_JEDEC: MO-229; ComponentLink1Description: Manufacturer URL; ComponentLink1URL: http://www.linear.com/; ComponentLink2Description: Datasheet; ComponentLink2URL: http://cds.linear.com/docs/en/datasheet/2908fd.pdf; ComponentLink3Description: Package Specification; ComponentLink3URL: http://cds.linear.com/docs/en/packaging/DFN_8_05-08-1702.pdf
footprint LT-DDB-8_V (SON, 8-Leads, Body 3x2mm, Pitch 0.5mm, Thermal Pad 2.2x0.61mm)
pins: 1 GND (power) "Device Ground.", 2 ~{RST} (oc) "Reset Logic Output. Pulls low when any voltage input is below the reset threshold and is held low for 200ms after all voltage inputs are above threshold. This pin has a weak pull-up to VCC and may be pulled above VCC using (See Datasheet)", 3 V4 (in) "Voltage Input 4.", 4 V2 (in) "Voltage Input 2. The greater of V1, V2 is also the internal VCC. The operating voltage on this pin shall not exceed 6V. When in normal operation (V1 > V2), this pin draws approximately 8uA. When this pin is acting as the VCC (See Datasheet)", 5 V1 (in) "Voltage Input 1. The greater of V1, V2 is also the internal VCC. The operating voltage on this pin shall not exceed 6V. When in normal operation (V1 > V2), this pin draws approximately 26uA. When this pin is not acting as (See Datasheet)", 6 VADJ1 (in) "Adjustable Voltage Input 1. See Table 1 for recommended ADJ resistors values.", 7 V3 (in) "Voltage Input 3.", 8 VADJ2 (in) "Adjustable Voltage Input 2. See Table 1 for recommended ADJ resistors values.", 9 EP (power) "Exposed pad may be left open or connected to device ground."

## LTC2908IDDB-A1#PBF
designator U?
Precision Six Supply Monitor, 8-pin SON (DDB-8), -40 to 85 degC, Pb-Free; Manufacturer: Linear Technology; PartNumber: LTC2908IDDB-A1#PBF; Number of Supplies(#): 6; DatasheetVersion: Rev. D; PackageVersion: Rev. B, 06/2010; PackageReference: DDB-8; PackageDescription: 8-Pin Plastic DFN, Body 3 x 2 mm, Pitch 0.5 mm; Supplier 1: Newark; Supplier Part Number 1: 78T3015; RoHS: TRUE; Mounting Technology: Surface Mount; Code_JEDEC: MO-229; ComponentLink1Description: Manufacturer URL; ComponentLink1URL: http://www.linear.com/; ComponentLink2Description: Datasheet; ComponentLink2URL: http://cds.linear.com/docs/en/datasheet/2908fd.pdf; ComponentLink3Description: Package Specification; ComponentLink3URL: http://cds.linear.com/docs/en/packaging/DFN_8_05-08-1702.pdf
footprint LT-DDB-8_V (SON, 8-Leads, Body 3x2mm, Pitch 0.5mm, Thermal Pad 2.2x0.61mm)
pins: 1 GND (power) "Device Ground.", 2 ~{RST} (oc) "Reset Logic Output. Pulls low when any voltage input is below the reset threshold and is held low for 200ms after all voltage inputs are above threshold. This pin has a weak pull-up to VCC and may be pulled above VCC using (See Datasheet)", 3 V4 (in) "Voltage Input 4.", 4 V2 (in) "Voltage Input 2. The greater of V1, V2 is also the internal VCC. The operating voltage on this pin shall not exceed 6V. When in normal operation (V1 > V2), this pin draws approximately 8uA. When this pin is acting as the VCC (See Datasheet)", 5 V1 (in) "Voltage Input 1. The greater of V1, V2 is also the internal VCC. The operating voltage on this pin shall not exceed 6V. When in normal operation (V1 > V2), this pin draws approximately 26uA. When this pin is not acting as (See Datasheet)", 6 VADJ1 (in) "Adjustable Voltage Input 1. See Table 1 for recommended ADJ resistors values.", 7 V3 (in) "Voltage Input 3.", 8 VADJ2 (in) "Adjustable Voltage Input 2. See Table 1 for recommended ADJ resistors values.", 9 EP (power) "Exposed pad may be left open or connected to device ground."

## LTC2908IDDB-A1#TR
designator U?
Precision Six Supply Monitor, 8-pin SON (DDB-8), -40 to 85 degC, Tape and Reel; Manufacturer: Linear Technology; PartNumber: LTC2908IDDB-A1#TR; Number of Supplies(#): 6; DatasheetVersion: Rev. D; PackageVersion: Rev. B, 06/2010; PackageReference: DDB-8; PackageDescription: 8-Pin Plastic DFN, Body 3 x 2 mm, Pitch 0.5 mm; Supplier 1: Digi-Key; Supplier Part Number 1: LTC2908IDDB-A1#TR-ND; Supplier 2: Newark; Supplier Part Number 2: 56M6747; Packing: Tape and Reel; RoHS: FALSE; Mounting Technology: Surface Mount; Code_JEDEC: MO-229; ComponentLink1Description: Manufacturer URL; ComponentLink1URL: http://www.linear.com/; ComponentLink2Description: Datasheet; ComponentLink2URL: http://cds.linear.com/docs/en/datasheet/2908fd.pdf; ComponentLink3Description: Package Specification; ComponentLink3URL: http://cds.linear.com/docs/en/packaging/DFN_8_05-08-1702.pdf
footprint LT-DDB-8_V (SON, 8-Leads, Body 3x2mm, Pitch 0.5mm, Thermal Pad 2.2x0.61mm)
pins: 1 GND (power) "Device Ground.", 2 ~{RST} (oc) "Reset Logic Output. Pulls low when any voltage input is below the reset threshold and is held low for 200ms after all voltage inputs are above threshold. This pin has a weak pull-up to VCC and may be pulled above VCC using (See Datasheet)", 3 V4 (in) "Voltage Input 4.", 4 V2 (in) "Voltage Input 2. The greater of V1, V2 is also the internal VCC. The operating voltage on this pin shall not exceed 6V. When in normal operation (V1 > V2), this pin draws approximately 8uA. When this pin is acting as the VCC (See Datasheet)", 5 V1 (in) "Voltage Input 1. The greater of V1, V2 is also the internal VCC. The operating voltage on this pin shall not exceed 6V. When in normal operation (V1 > V2), this pin draws approximately 26uA. When this pin is not acting as (See Datasheet)", 6 VADJ1 (in) "Adjustable Voltage Input 1. See Table 1 for recommended ADJ resistors values.", 7 V3 (in) "Voltage Input 3.", 8 VADJ2 (in) "Adjustable Voltage Input 2. See Table 1 for recommended ADJ resistors values.", 9 EP (power) "Exposed pad may be left open or connected to device ground."

## LTC2908IDDB-A1#TRM
designator U?
Precision Six Supply Monitor, 8-pin SON (DDB-8), -40 to 85 degC, Mini Tape and Reel; Manufacturer: Linear Technology; PartNumber: LTC2908IDDB-A1#TRM; Number of Supplies(#): 6; DatasheetVersion: Rev. D; PackageVersion: Rev. B, 06/2010; PackageReference: DDB-8; PackageDescription: 8-Pin Plastic DFN, Body 3 x 2 mm, Pitch 0.5 mm; Supplier 1: Digi-Key; Supplier Part Number 1: LTC2908IDDB-A1#TRM-ND; Packing: Mini Tape and Reel; RoHS: FALSE; Mounting Technology: Surface Mount; Code_JEDEC: MO-229; ComponentLink1Description: Manufacturer URL; ComponentLink1URL: http://www.linear.com/; ComponentLink2Description: Datasheet; ComponentLink2URL: http://cds.linear.com/docs/en/datasheet/2908fd.pdf; ComponentLink3Description: Package Specification; ComponentLink3URL: http://cds.linear.com/docs/en/packaging/DFN_8_05-08-1702.pdf
footprint LT-DDB-8_V (SON, 8-Leads, Body 3x2mm, Pitch 0.5mm, Thermal Pad 2.2x0.61mm)
pins: 1 GND (power) "Device Ground.", 2 ~{RST} (oc) "Reset Logic Output. Pulls low when any voltage input is below the reset threshold and is held low for 200ms after all voltage inputs are above threshold. This pin has a weak pull-up to VCC and may be pulled above VCC using (See Datasheet)", 3 V4 (in) "Voltage Input 4.", 4 V2 (in) "Voltage Input 2. The greater of V1, V2 is also the internal VCC. The operating voltage on this pin shall not exceed 6V. When in normal operation (V1 > V2), this pin draws approximately 8uA. When this pin is acting as the VCC (See Datasheet)", 5 V1 (in) "Voltage Input 1. The greater of V1, V2 is also the internal VCC. The operating voltage on this pin shall not exceed 6V. When in normal operation (V1 > V2), this pin draws approximately 26uA. When this pin is not acting as (See Datasheet)", 6 VADJ1 (in) "Adjustable Voltage Input 1. See Table 1 for recommended ADJ resistors values.", 7 V3 (in) "Voltage Input 3.", 8 VADJ2 (in) "Adjustable Voltage Input 2. See Table 1 for recommended ADJ resistors values.", 9 EP (power) "Exposed pad may be left open or connected to device ground."

## LTC2908IDDB-A1#TRMPBF
designator U?
Precision Six Supply Monitor, 8-pin SON (DDB-8), -40 to 85 degC, Pb-Free, Mini Tape and Reel; Manufacturer: Linear Technology; PartNumber: LTC2908IDDB-A1#TRMPBF; Number of Supplies(#): 6; DatasheetVersion: Rev. D; PackageVersion: Rev. B, 06/2010; PackageReference: DDB-8; PackageDescription: 8-Pin Plastic DFN, Body 3 x 2 mm, Pitch 0.5 mm; Supplier 1: Digi-Key; Supplier Part Number 1: LTC2908IDDB-A1#TRMPBF-ND; Packing: Mini Tape and Reel; RoHS: TRUE; Mounting Technology: Surface Mount; Code_JEDEC: MO-229; ComponentLink1Description: Manufacturer URL; ComponentLink1URL: http://www.linear.com/; ComponentLink2Description: Datasheet; ComponentLink2URL: http://cds.linear.com/docs/en/datasheet/2908fd.pdf; ComponentLink3Description: Package Specification; ComponentLink3URL: http://cds.linear.com/docs/en/packaging/DFN_8_05-08-1702.pdf
footprint LT-DDB-8_V (SON, 8-Leads, Body 3x2mm, Pitch 0.5mm, Thermal Pad 2.2x0.61mm)
pins: 1 GND (power) "Device Ground.", 2 ~{RST} (oc) "Reset Logic Output. Pulls low when any voltage input is below the reset threshold and is held low for 200ms after all voltage inputs are above threshold. This pin has a weak pull-up to VCC and may be pulled above VCC using (See Datasheet)", 3 V4 (in) "Voltage Input 4.", 4 V2 (in) "Voltage Input 2. The greater of V1, V2 is also the internal VCC. The operating voltage on this pin shall not exceed 6V. When in normal operation (V1 > V2), this pin draws approximately 8uA. When this pin is acting as the VCC (See Datasheet)", 5 V1 (in) "Voltage Input 1. The greater of V1, V2 is also the internal VCC. The operating voltage on this pin shall not exceed 6V. When in normal operation (V1 > V2), this pin draws approximately 26uA. When this pin is not acting as (See Datasheet)", 6 VADJ1 (in) "Adjustable Voltage Input 1. See Table 1 for recommended ADJ resistors values.", 7 V3 (in) "Voltage Input 3.", 8 VADJ2 (in) "Adjustable Voltage Input 2. See Table 1 for recommended ADJ resistors values.", 9 EP (power) "Exposed pad may be left open or connected to device ground."

## LTC2908IDDB-A1#TRPBF
designator U?
Precision Six Supply Monitor, 8-pin SON (DDB-8), -40 to 85 degC, Pb-Free, Tape and Reel; Manufacturer: Linear Technology; PartNumber: LTC2908IDDB-A1#TRPBF; Number of Supplies(#): 6; DatasheetVersion: Rev. D; PackageVersion: Rev. B, 06/2010; PackageReference: DDB-8; PackageDescription: 8-Pin Plastic DFN, Body 3 x 2 mm, Pitch 0.5 mm; Supplier 1: Digi-Key; Supplier Part Number 1: LTC2908IDDB-A1#TRPBF-ND; Supplier 2: Newark; Supplier Part Number 2: 56M6750; Packing: Tape and Reel; RoHS: TRUE; Mounting Technology: Surface Mount; Code_JEDEC: MO-229; ComponentLink1Description: Manufacturer URL; ComponentLink1URL: http://www.linear.com/; ComponentLink2Description: Datasheet; ComponentLink2URL: http://cds.linear.com/docs/en/datasheet/2908fd.pdf; ComponentLink3Description: Package Specification; ComponentLink3URL: http://cds.linear.com/docs/en/packaging/DFN_8_05-08-1702.pdf
footprint LT-DDB-8_V (SON, 8-Leads, Body 3x2mm, Pitch 0.5mm, Thermal Pad 2.2x0.61mm)
pins: 1 GND (power) "Device Ground.", 2 ~{RST} (oc) "Reset Logic Output. Pulls low when any voltage input is below the reset threshold and is held low for 200ms after all voltage inputs are above threshold. This pin has a weak pull-up to VCC and may be pulled above VCC using (See Datasheet)", 3 V4 (in) "Voltage Input 4.", 4 V2 (in) "Voltage Input 2. The greater of V1, V2 is also the internal VCC. The operating voltage on this pin shall not exceed 6V. When in normal operation (V1 > V2), this pin draws approximately 8uA. When this pin is acting as the VCC (See Datasheet)", 5 V1 (in) "Voltage Input 1. The greater of V1, V2 is also the internal VCC. The operating voltage on this pin shall not exceed 6V. When in normal operation (V1 > V2), this pin draws approximately 26uA. When this pin is not acting as (See Datasheet)", 6 VADJ1 (in) "Adjustable Voltage Input 1. See Table 1 for recommended ADJ resistors values.", 7 V3 (in) "Voltage Input 3.", 8 VADJ2 (in) "Adjustable Voltage Input 2. See Table 1 for recommended ADJ resistors values.", 9 EP (power) "Exposed pad may be left open or connected to device ground."